# EAGLE library part ZERO_6 (library raspberry_pi)
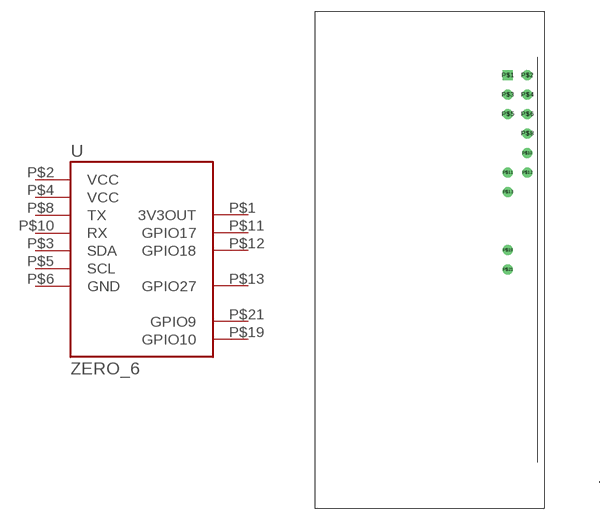
[diagram p1: symbol with the pads of ZERO_6; footprint ZERO_6]

Designator prefix -

## ZERO_6  [ZERO_6]
P$1  3V3OUT  pwr
P$2  VCC  pwr
P$3  SDA
P$4  VCC  pwr
P$5  SCL
P$6  GND  pwr
P$8  TX
P$10  RX
P$11  GPIO17
P$12  GPIO18
P$13  GPIO27
P$19  GPIO10  in
P$21  GPIO9  pwr

## Footprint ZERO_6 (pad centres in mm)
drill 0.8 square: P$1 -1.27,24.13
drill 0.8 round: P$2 1.27,24.13; P$3 -1.27,21.59; P$4 1.27,21.59; P$5 -1.27,19.05; P$6 1.27,19.05; P$8 1.27,16.51; P$10 1.27,13.97; P$11 -1.27,11.43; P$12 1.27,11.43; P$13 -1.27,8.89; P$19 -1.27,1.27; P$21 -1.27,-1.27